# EAGLE library part BGATST (library Bits_library_eagle)
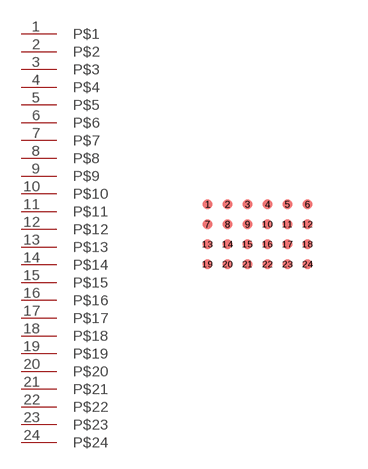
[diagram p32: symbol with the pads of BGATST_F; footprint BGATST_F]

Designator prefix -

## BGATSTTFBGA  [BGATST_F]
1  P$1
2  P$2
3  P$3
4  P$4
5  P$5
6  P$6
7  P$7
8  P$8
9  P$9
10  P$10
11  P$11
12  P$12
13  P$13
14  P$14
15  P$15
16  P$16
17  P$17
18  P$18
19  P$19
20  P$20
21  P$21
22  P$22
23  P$23
24  P$24

## Footprint BGATST_F (pad centres in mm)
smd 0.25 x 0.25: 1 0,0; 2 0.5,0; 3 1,0; 4 1.5,0; 5 2,0; 6 2.5,0; 7 0,-0.5; 8 0.5,-0.5; 9 1,-0.5; 10 1.5,-0.5; 11 2,-0.5; 12 2.5,-0.5; 13 0,-1; 14 0.5,-1; 15 1,-1; 16 1.5,-1; 17 2,-1; 18 2.5,-1; 19 0,-1.5; 20 0.5,-1.5; 21 1,-1.5; 22 1.5,-1.5; 23 2,-1.5; 24 2.5,-1.5